# EAGLE library part SIMSLOT (library components)
Molex SIM Card Slot
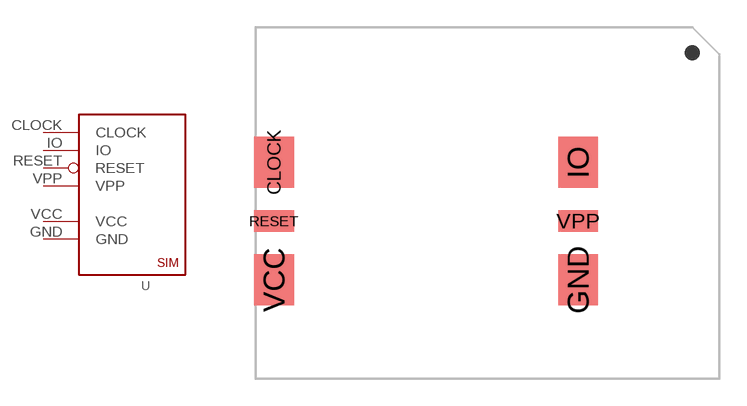
[diagram p3: symbol with the pads of SIMSLOT; footprint SIMSLOT]

Designator prefix -

## SIMSLOT  [SIMSLOT]
CLOCK  CLOCK  in
GND  GND  pwr
IO  IO
RESET  RESET  in
VCC  VCC  pwr
VPP  VPP  in

## Footprint SIMSLOT (pad centres in mm)
SMD SIM Card Holder Package
smd 2.2 x 2.8: CLOCK 1.1,3.24; GND 17.9,-3.24; IO 17.9,3.24; VCC 1.1,-3.24
smd 2.2 x 1.2: RESET 1.1,0; VPP 17.9,0